# EAGLE library part 74HCT125D,653 (library 74HCT125D_653)
74HC(T)125 - Quad buffer/line driver; 3-state@en-us Source: Datasheet <https://assets.nexperia.com/documents/data-sheet/74HC_HCT125.pdf>
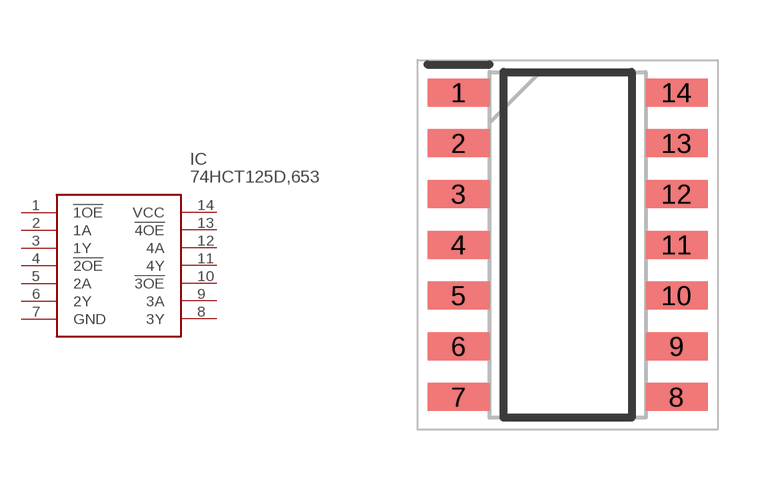
[diagram p0: symbol with the pads of SOIC127P600X175-14N; footprint SOIC127P600X175-14N]

Designator prefix IC

## 74HCT125D,653 (Arrow_Part_Number: 74HCT125D,653; Arrow_Price-Stock: https://www.arrow.com/en/products/74hct125d653/nexperia; Description: 74HC(T)125 - Quad buffer/line driver; 3-state@en-us; Height: 1.75mm; Manufacturer_Name: Nexperia; Manufacturer_Part_Number: 74HCT125D,653; Mouser_Part_Number: 771-74HCT125D-T; Mouser_Price-Stock: https://www.mouser.co.uk/ProductDetail/Nexperia/74HCT125D653?qs=P62ublwmbi8Z6beKWHzjig%3D%3D)  [SOIC127P600X175-14N]
1  !1OE
2  1A
3  1Y
4  !2OE
5  2A
6  2Y
7  GND
8  3Y
9  3A
10  !3OE
11  4Y
12  4A
13  !4OE
14  VCC

## Footprint SOIC127P600X175-14N (pad centres in mm)
SO14
smd 1.55 x 0.7: 1 -2.725,3.81; 2 -2.725,2.54; 3 -2.725,1.27; 4 -2.725,0; 5 -2.725,-1.27; 6 -2.725,-2.54; 7 -2.725,-3.81; 8 2.725,-3.81; 9 2.725,-2.54; 10 2.725,-1.27; 11 2.725,0; 12 2.725,1.27; 13 2.725,2.54; 14 2.725,3.81